# EAGLE library part FDS8958B (library jason_eagle6)
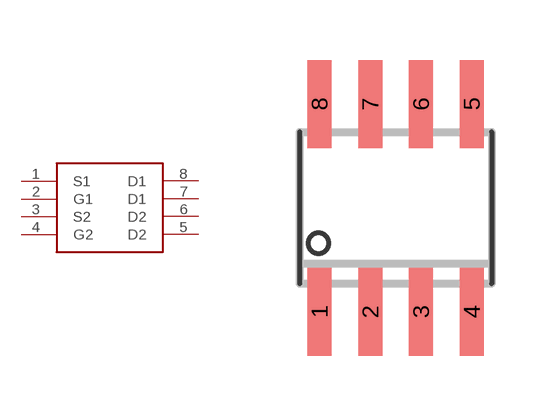
[diagram p8: symbol with the pads of SOIC8; footprint SOIC8]

Designator prefix -

## FDS8958B  [SOIC8]
1  S1
2  G1
3  S2
4  G2
5  D2
6  D2
7  D1
8  D1

## Footprint SOIC8 (pad centres in mm)
Small Outline IC
smd 0.6 x 2.2: 1 -1.905,-2.6; 2 -0.635,-2.6; 3 0.635,-2.6; 4 1.905,-2.6; 5 1.905,2.6; 6 0.635,2.6; 7 -0.635,2.6; 8 -1.905,2.6